# EAGLE library part 1X10_LOCK_F (library pighiXXX)
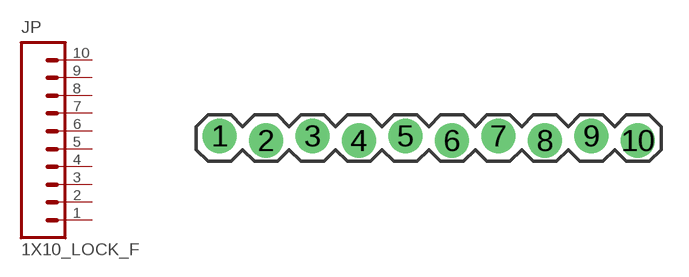
[diagram p3: symbol with the pads of 1X10_LOCK_F; footprint 1X10_LOCK_F]

Designator prefix JP

## 1X10_LOCK_F  [1X10_LOCK_F]
1  1  pas
2  2  pas
3  3  pas
4  4  pas
5  5  pas
6  6  pas
7  7  pas
8  8  pas
9  9  pas
10  10  pas

## Footprint 1X10_LOCK_F (pad centres in mm)
drill 1.016 pad 1.88: 1 -22.86,0.127; 2 -20.32,-0.127; 3 -17.78,0.127; 4 -15.24,-0.127; 5 -12.7,0.127; 6 -10.16,-0.127; 7 -7.62,0.127; 8 -5.08,-0.127; 9 -2.54,0.127; 10 0,-0.127